# EAGLE library part OSTYK42108030 (library myLib)
Barrier Blocks CONN BARRIER STRIP 8CIRC 8.25MM Source: http://www.on-shore.com/sites/default/files/manuals/ostyk421xx030.pdf
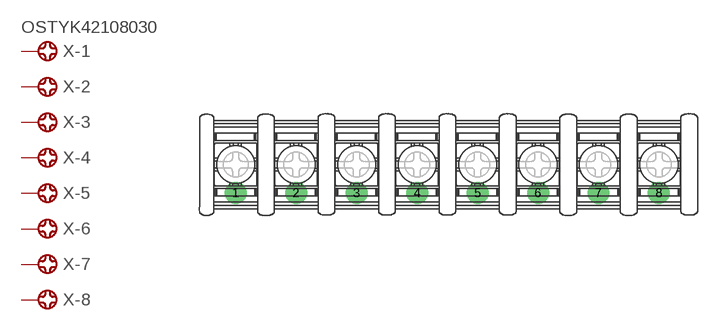
[diagram p1: symbol with the pads of OSTYK42108030; footprint OSTYK42108030]

Designator prefix X; gates -1=CONNECT-VALUE -2=CONNECT -3=CONNECT -4=CONNECT -5=CONNECT -6=CONNECT -7=CONNECT -8=CONNECT

## OSTYK42108030 (OC_FARNELL: unknown; OC_NEWARK: unknown)  [OSTYK42108030]
1  -1:1  pas
2  -2:1  pas
3  -3:1  pas
4  -4:1  pas
5  -5:1  pas
6  -6:1  pas
7  -7:1  pas
8  -8:1  pas

## Footprint OSTYK42108030 (pad centres in mm)
Barrier Blocks Sreies 5202 Source: http://www.ebyelectro.com/PDF/5202-XX-N-02.pdf
drill 1.5 pad 3: 1 -28.865,-3.9; 2 -20.615,-3.9; 3 -12.365,-3.9; 4 -4.115,-3.9; 5 4.135,-3.9; 6 12.385,-3.9; 7 20.635,-3.9; 8 28.885,-3.9